# Altium footprint library led.PCBLIB: 116 footprints (part 2 of 8)
Each footprint in its own frame and in the unit in brackets; x right, y up, seen from the top. Pads: shape width x height; smd on the part's side, far side on the other; paste and mask are expansions set on the pad; w line width, h text height; cw(c..) or ccw(c..) is an arc to the next point about the centre after c.
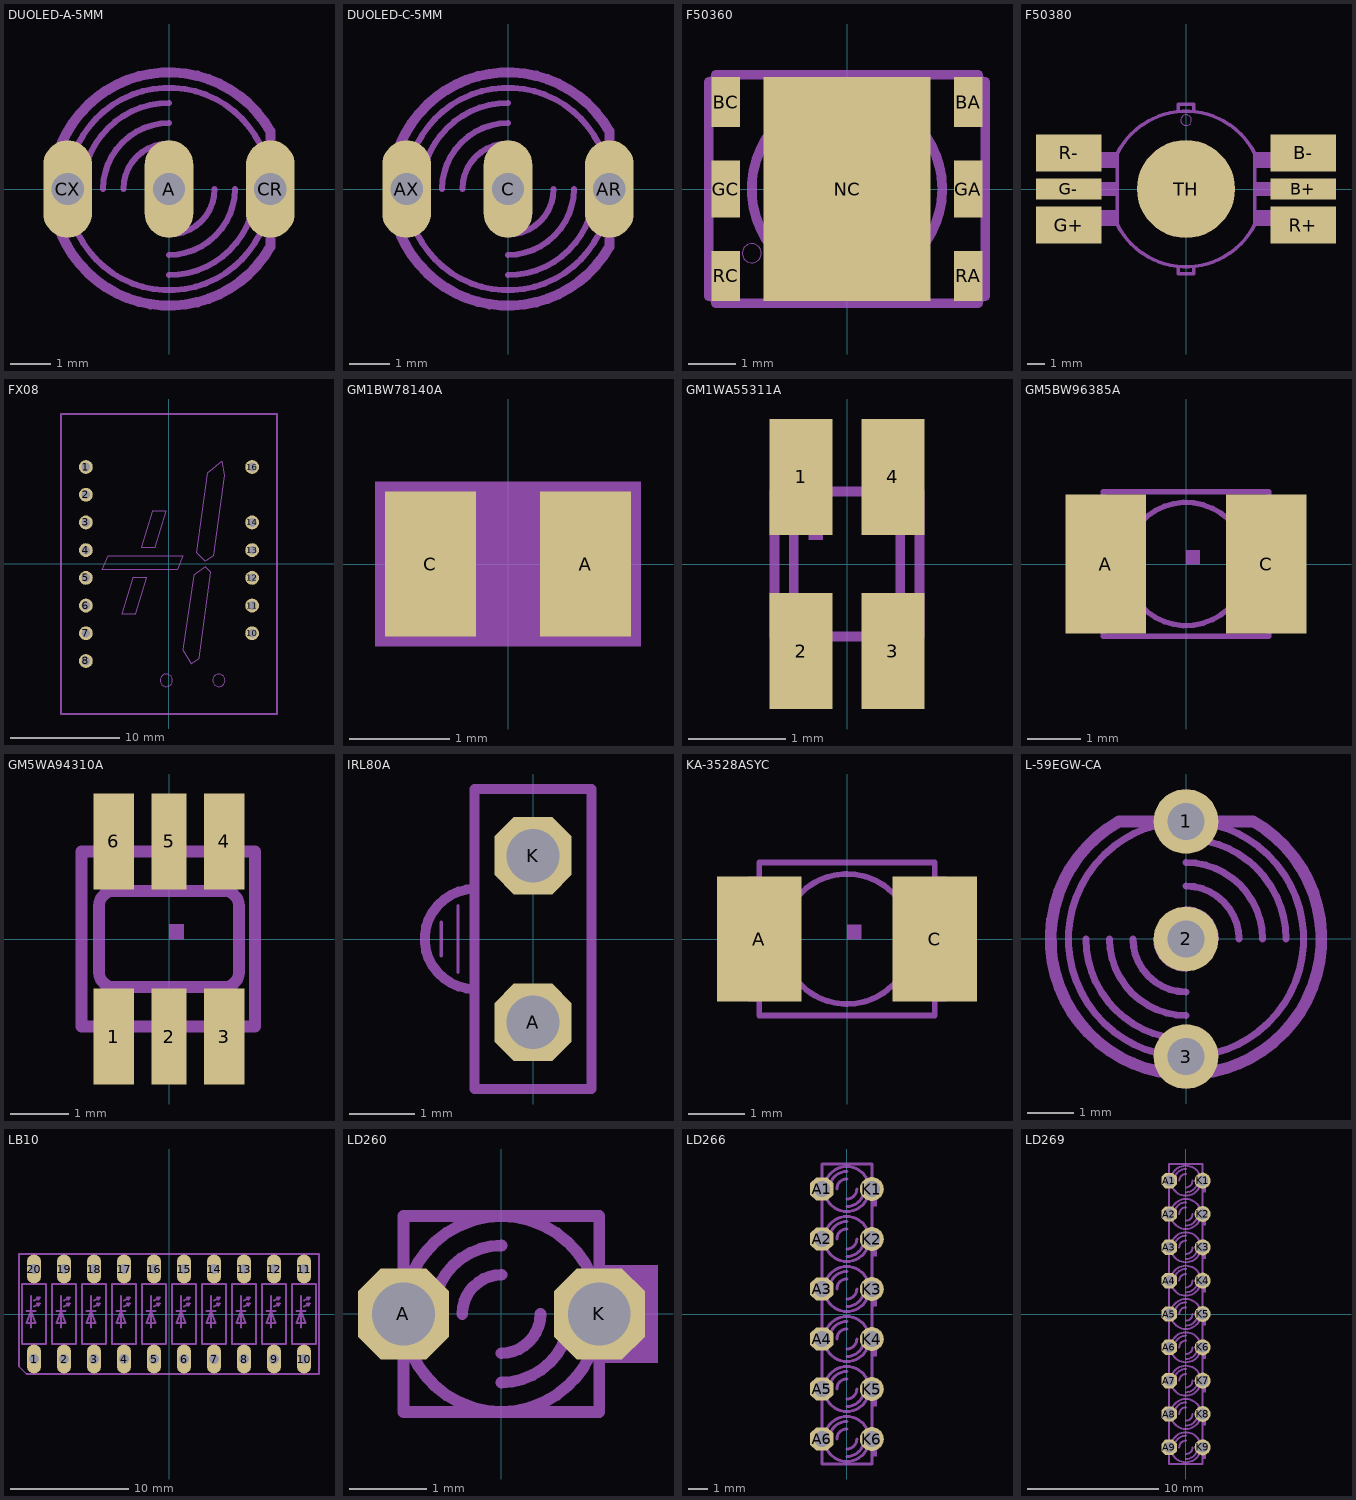
[diagram p1: the footprints below, top view; thin cyan lines are the x and y axes]

## DUOLED-A-5MM [mil]
pads (3):
  oval 48x96 hole 32: A(0,0) CR(100,0) CX(-100,0)
Mechanical 2:
  lines w6: -94,-34 ccw(c0,0) 94,-34 ; -94,34 cw(c0,0) 94,34
  lines w10: -110,-34 ccw(c0,0.01) 100.03,-57.02 ; -109.97,33.99 cw(c0,0.01) 100,57 100,35 ; 100,-57 100,-35
Mechanical 18:
  lines w6: -94,-34 cw(c0,0) -94,34 ; -85,0 cw(c0,0) 0,85 ; -65,0 cw(c0,0) 0,65 ; -45,0 cw(c0,0) 0,45 ; 0,-85 ccw(c0,0) 85,0 ; 0,-65 ccw(c0,0) 65,0 ; 0,-45 ccw(c0,0) 45,0 ; 94,-34 ccw(c0,0) 94,34
  lines w10: -110,-34 cw(c0,0) -110,34 ; 100,-35 100,37

## DUOLED-C-5MM [mil]
pads (3):
  oval 48x96 hole 32: AR(100,0) AX(-100,0) C(0,0)
Mechanical 2:
  lines w6: -94,-34 ccw(c0,0) 94,-34 ; -94,34 cw(c0,0) 94,34
  lines w10: -110,-34 ccw(c0,0.01) 100.03,-57.02 ; -109.97,33.99 cw(c0,0.01) 100,57 100,35 ; 100,-57 100,-35
Mechanical 18:
  lines w6: -94,-34 cw(c0,0) -94,34 ; -85,0 cw(c0,0) 0,85 ; -65,0 cw(c0,0) 0,65 ; -45,0 cw(c0,0) 0,45 ; 0,-85 ccw(c0,0) 85,0 ; 0,-65 ccw(c0,0) 65,0 ; 0,-45 ccw(c0,0) 45,0 ; 94,-34 ccw(c0,0) 94,34
  lines w10: -110,-34 cw(c0,0) -110,34 ; 100,-35 100,37

## F50360 [mm]
pads (7):
  rect 0.6x1.05 smd: BA(2.55,1.825) BC(-2.55,1.825) RA(2.55,-1.825) RC(-2.55,-1.825)
  rect 0.6x1.2 smd: GA(2.55,0) GC(-2.55,0)
  rect 3.5x4.7 smd: NC(0,0)
Mechanical 2:
  circle w0: c-2,-1.35 r0.2
Mechanical 18:
  circle w0.203: c0,0 r2
  region: -1.25,0.5 -1.25,-0.5 -0.25,-0.5 -0.25,0.5
  region: 0.25,1.25 0.25,0.25 1.25,0.25 1.25,1.25
  region: 0.25,-0.25 0.25,-1.25 1.25,-1.25 1.25,-0.25
  region: -0.5,-1 -0.5,-1.25 -0.25,-1.25 -0.25,-1
  region: -0.5,1.25 -0.5,1 -0.25,1 -0.25,1.25
  region: -1.25,1.25 -1.25,1 -1,1 -1,1.25
  lines w0.203: -2.9,-2.25 -2.9,2.25 ccw(c-2.9,2.4) -2.75,2.4 2.75,2.4 ccw(c2.9,2.4) 2.9,2.25 2.9,-2.25 ccw(c2.9,-2.4) 2.75,-2.4 -2.75,-2.4 ccw(c-2.9,-2.4) -2.9,-2.25

## F50380 [mm]
pads (7):
  rect 3.7x1.2 smd: B+(6.65,0) G-(-6.65,0)
  rect 3.7x2.1 smd: B-(6.65,2.05) G+(-6.65,-2.05) R+(6.65,-2.05) R-(-6.65,2.05)
  rrect100% 5.55x5.55 smd: TH(0,0)
Mechanical 2:
  circle w0: c0,3.9 r0.301
  rectangle: -5.4,-0.4 -3.975,0.4
  rectangle: -5.4,1.2 -3.925,2.1
  rectangle: -5.4,-2.1 -3.975,-1.2
  region: 5.4,0.4 3.975,0.4 3.975,-0.4 5.4,-0.4
  region: 5.4,-1.2 3.925,-1.2 3.925,-2.1 5.4,-2.1
  region: 5.4,2.1 3.975,2.1 3.975,1.2 5.4,1.2
  lines w0.203: -0.45,-4.5 -0.45,-4.8 0.45,-4.8 0.45,-4.475 ; -0.45,4.475 -0.45,4.8 0.45,4.8 0.45,4.5 ; -3.9,-2.025 ccw(c0,-0.012) 3.9,-2.025 3.9,2.025 ccw(c0,0.01) -3.9,2.025 -3.9,-2.025
Mechanical 18:
  rectangle: -7.25,-0.4 -5.7,0.4
  rectangle: -7.25,-2.7 -5.7,-1.2
  rectangle: -7.25,1.2 -5.7,2.7
  rectangle: -5.7,1.2 -5.4,2.1
  rectangle: -5.7,-0.4 -5.4,0.4
  rectangle: -5.7,-2.1 -5.4,-1.2
  region: 7.25,0.4 5.7,0.4 5.7,-0.4 7.25,-0.4
  region: 7.25,2.7 5.7,2.7 5.7,1.2 7.25,1.2
  region: 7.25,-1.2 5.7,-1.2 5.7,-2.7 7.25,-2.7
  region: 5.7,-1.2 5.4,-1.2 5.4,-2.1 5.7,-2.1
  region: 5.7,0.4 5.4,0.4 5.4,-0.4 5.7,-0.4
  region: 5.7,2.1 5.4,2.1 5.4,1.2 5.7,1.2

## FX08 [mil]
pads (14):
  round 50 hole 31.5: 1(-300,350) 2(-300,250) 3(-300,150) 4(-300,50) 5(-300,-50) 6(-300,-150) 7(-300,-250) 8(-300,-350) 10(300,-250) 11(300,-150) 12(300,-50) 13(300,50) 14(300,150) 16(300,350)
Mechanical 2:
  circle w3.94: c-10,-420 r22.36
  circle w3.94: c180,-420 r22.36
  lines w3.94: -240,-20 30,-20 50,30 -220,30 -240,-20 ; -170,-180 -120,-180 -80,-50 -130,-50 -170,-180 ; -100,60 -50,60 -10,190 -60,190 -100,60 ; 50,-310 90,-40 130,-10 150,-30 110,-340 80,-360 50,-310 ; 100,40 130,10 160,30 200,320 190,370 140,330 100,40
  lines w8: -389.76,-541.34 389.76,-541.34 389.76,541.34 -389.76,541.34 -389.76,-541.34

## GM1BW78140A [mil]
pads (2):
  rect 35.43x56.69 smd paste-28.34 mask-28.34: A(30.32,0) C(-30.32,0)
Top Paste:
  rectangle: 13.78,-26.57 46.26,26.57
  region: 0,0 10,0 10,10 0,10
Top Solder:
  rectangle: 10.83,-30.51 50.2,30.51
  region: 0,0 10,0 10,10 0,10
Mechanical 18:
  rectangle: -51.97,-32.28 51.97,32.28

## GM1WA55311A [mm]
pads (4):
  rect 0.65x1.2 smd paste-0.6 mask-0.6: 1(-0.475,0.9) 2(-0.475,-0.9) 3(0.475,-0.9) 4(0.475,0.9)
Top Paste:
  rectangle: -0.775,0.325 -0.175,1.45
  rectangle: 0.175,0.325 0.775,1.45
  region: 0.775,-0.325 0.175,-0.325 0.175,-1.45 0.775,-1.45
  region: -0.175,-0.325 -0.775,-0.325 -0.775,-1.45 -0.175,-1.45
Top Solder:
  rectangle: -0.85,0.25 -0.1,1.55
  rectangle: 0.1,0.25 0.85,1.55
  rectangle: -0.85,-1.55 -0.1,-0.25
  rectangle: 0.1,-1.55 0.85,-0.25
Mechanical 18:
  rectangle: -0.4,0.25 -0.25,0.65
  lines w0.102: -0.55,-0.7 -0.55,0.7 ; 0.55,-0.7 0.55,0.7 ; -0.75,-0.75 0.75,-0.75 0.75,0.75 -0.75,0.75 -0.75,-0.75

## GM5BW96385A [mil]
pads (2):
  rect 59.06x102.36 smd: A(-59.06,0) C(59.06,0)
Mechanical 18:
  circle w4: c0,0 r45.28
  rectangle: -68.9,-43.31 -62.01,43.31
  region: 68.9,43.31 62.01,43.31 62.01,-43.31 68.9,-43.31
  region: 0,0 10,0 10,10 0,10
  lines w4: -61.02,-53.15 61.02,-53.15 61.02,53.15 -61.02,53.15 -61.02,-53.15

## GM5WA94310A [mm]
pads (6):
  rect 0.7x1.65 smd mask-0.825: 1(-0.95,-1.675) 3(0.95,-1.675) 4(0.95,1.675) 6(-0.95,1.675)
  rect 0.6x1.65 smd mask-0.825: 2(0,-1.675) 5(0,1.675)
Top Solder:
  rectangle: -1.375,-2.575 -0.525,-0.775
  rectangle: -0.375,-2.575 0.375,-0.775
  rectangle: 0.525,-2.575 1.375,-0.775
  region: 1.375,2.575 0.525,2.575 0.525,0.775 1.375,0.775
  region: 0.375,2.575 -0.375,2.575 -0.375,0.775 0.375,0.775
  region: -0.525,2.575 -1.375,2.575 -1.375,0.775 -0.525,0.775
Mechanical 18:
  rectangle: -0.25,1.575 0.25,1.75
  rectangle: -1.2,1.575 -0.7,1.75
  rectangle: 0.7,1.575 1.2,1.75
  region: 0.25,-1.575 -0.25,-1.575 -0.25,-1.75 0.25,-1.75
  region: 1.2,-1.575 0.7,-1.575 0.7,-1.75 1.2,-1.75
  region: -0.7,-1.575 -1.2,-1.575 -1.2,-1.75 -0.7,-1.75
  region: 0,0 0.254,0 0.254,0.254 0,0.254
  lines w0.203: -1.5,-1.5 1.475,-1.5 1.475,1.5 -1.5,1.5 -1.5,-1.5 ; -1.2,-0.575 ccw(c-0.95,-0.575) -0.95,-0.825 0.95,-0.825 ccw(c0.95,-0.575) 1.2,-0.575 1.2,0.575 ccw(c0.95,0.575) 0.95,0.825 -0.95,0.825 ccw(c-0.95,0.575) -1.2,0.575 -1.2,-0.575

## IRL80A [mil]
pads (2):
  oct 46.48x46.48 hole 32: A(0,-50) K(0,50)
Mechanical 2:
  lines w2: -55,-10 -55,10 ; -45,-20 -45,20
  lines w6: -35,-70 -35,-90 35,-90 35,-70 ; -35,70 -35,90 35,90 35,70 ; 35,-25 35,30 ; -35,-30 -35,30 ccw(c-35,0) -35,-30
Mechanical 18:
  lines w6: -35,-70 -35,-30 ; -35,30 -35,70 ; 35,-70 35,-25 ; 35,30 35,70

## KA-3528ASYC [mil]
pads (2):
  rect 59.06x86.61 smd: A(-61.02,0) C(61.02,0)
Mechanical 2:
  region: 0,0 10,0 10,10 0,10
  lines w4: -61.02,-53.15 61.02,-53.15 ; -61.02,53.15 61.02,53.15 ; -25.59,-37.4 ccw(c0,0.25) 25.59,-37.4 ; -25.59,37.4 cw(c0,-0.25) 25.59,37.4
Mechanical 18:
  circle w4: c0,0 r45.28
  rectangle: -68.9,23.62 -62.99,43.31
  rectangle: -68.9,-43.31 -62.99,-23.62
  region: 68.9,-23.62 62.99,-23.62 62.99,-43.31 68.9,-43.31
  region: 68.9,43.31 62.99,43.31 62.99,23.62 68.9,23.62
  region: 0,0 10,0 10,10 0,10
  lines w4: -61.02,-53.15 -61.02,53.15 ; 61.02,-53.15 61.02,53.15

## L-59EGW-CA [mil]
pads (3):
  round 55.12 hole 31.5: 1(0,100) 2(0,0) 3(0,-100)
Mechanical 2:
  lines w6: -34,-94 cw(c0,0) -34,94 ; 34,-94 ccw(c0,0) 34,94
  lines w10: -35,100 -57,100 ccw(c-0.01,0) -33.99,-109.97 ; 34,-110 ccw(c-0.01,0) 57.02,100.03 ; 35,100 57,100
Mechanical 18:
  lines w6: -85,0 ccw(c0,0) 0,-85 ; -65,0 ccw(c0,0) 0,-65 ; -45,0 ccw(c0,0) 0,-45 ; -34,-94 ccw(c0,0) 34,-94 ; -34,94 cw(c0,0) 34,94 ; -25,0 ccw(c0,0) 0,-25 ; 0,25 cw(c0,0) 25,0 ; 0,45 cw(c0,0) 45,0 ; 0,65 cw(c0,0) 65,0 ; 0,85 cw(c0,0) 85,0
  lines w10: -37,100 35,100 ; -34,-110 ccw(c0,0) 34,-110

## LB10 [mil]
pads (20):
  oval 48x96 hole 32: 1(-450,-150) 2(-350,-150) 3(-250,-150) 4(-150,-150) 5(-50,-150) 6(50,-150) 7(150,-150) 8(250,-150) 9(350,-150) 10(450,-150) 11(450,150) 12(350,150) 13(250,150) 14(150,150) 15(50,150) 16(-50,150) 17(-150,150) 18(-250,150) 19(-350,150) 20(-450,150)
Mechanical 2:
  lines w6: -500,-175 -500,200 500,200 500,-200 -475,-200 -500,-175 ; -490,-100 -410,-100 -410,100 -490,100 -490,-100 ; -390,-100 -310,-100 -310,100 -390,100 -390,-100 ; -290,-100 -210,-100 -210,100 -290,100 -290,-100 ; -190,-100 -190,100 -110,100 -110,-100 -190,-100 ; -90,-100 -90,100 -10,100 -10,-100 -90,-100 ; 10,-100 10,100 90,100 90,-100 10,-100 ; 110,-100 110,100 190,100 190,-100 110,-100 ; 210,-100 210,100 290,100 290,-100 210,-100 ; 310,-100 310,100 390,100 390,-100 310,-100 ; 410,-100 410,100 490,100 490,-100 410,-100
Mechanical 18:
  lines w6: -475,10 -460,10 ; -460,-45 -460,10 ; -460,60 -460,10 ; -450,25 -430,35 ; -450,45 -430,55 ; -445,10 -460,10 ; -375,10 -360,10 ; -360,-45 -360,10 ; -360,60 -360,10 ; -350,25 -330,35 ; -350,45 -330,55 ; -345,10 -360,10 ; -275,10 -260,10 ; -260,-45 -260,10 ; -260,60 -260,10 ; -250,25 -230,35 ; -250,45 -230,55 ; -245,10 -260,10 ; -175,10 -160,10 ; -160,-45 -160,10 ; -160,60 -160,10 ; -150,25 -130,35 ; -150,45 -130,55 ; -145,10 -160,10 ; -75,10 -60,10 ; -60,-45 -60,10 ; -60,60 -60,10 ; -50,25 -30,35 ; -50,45 -30,55 ; -45,10 -60,10 ; 25,10 40,10 ; 40,-45 40,10 ; 40,60 40,10 ; 50,25 70,35 ; 50,45 70,55 ; 55,10 40,10 ; 125,10 140,10 ; 140,-45 140,10 ; 140,60 140,10 ; 150,25 170,35 ; 150,45 170,55 ; 155,10 140,10 ; 225,10 240,10 ; 240,-45 240,10 ; 240,60 240,10 ; 250,25 270,35 ; 250,45 270,55 ; 255,10 240,10 ; 325,10 340,10 ; 340,-45 340,10 ; 340,60 340,10 ; 350,25 370,35 ; 350,45 370,55 ; 355,10 340,10 ; 425,10 440,10 ; 440,-45 440,10 ; 440,60 440,10 ; 450,25 470,35 ; 450,45 470,55 ; 455,10 440,10 ; -460,10 -475,-30 -445,-30 -460,10 ; -430,35 -440,35 -436,27 -430,35 ; -430,55 -440,55 -436,47 -430,55 ; -360,10 -375,-30 -345,-30 -360,10 ; -330,35 -340,35 -336,27 -330,35 ; -330,55 -340,55 -336,47 -330,55 ; -260,10 -275,-30 -245,-30 -260,10 ; -230,35 -240,35 -236,27 -230,35 ; -230,55 -240,55 -236,47 -230,55 ; -160,10 -175,-30 -145,-30 -160,10 ; -130,35 -140,35 -136,27 -130,35 ; -130,55 -140,55 -136,47 -130,55 ; -60,10 -75,-30 -45,-30 -60,10 ; -30,35 -40,35 -36,27 -30,35 ; -30,55 -40,55 -36,47 -30,55 ; 40,10 25,-30 55,-30 40,10 ; 70,35 60,35 64,27 70,35 ; 70,55 60,55 64,47 70,55 ; 140,10 125,-30 155,-30 140,10 ; 170,35 160,35 164,27 170,35 ; 170,55 160,55 164,47 170,55 ; 240,10 225,-30 255,-30 240,10 ; 270,35 260,35 264,27 270,35 ; 270,55 260,55 264,47 270,55 ; 340,10 325,-30 355,-30 340,10 ; 370,35 360,35 364,27 370,35 ; 370,55 360,55 364,47 370,55 ; 440,10 425,-30 455,-30 440,10 ; 470,35 460,35 464,27 470,35 ; 470,55 460,55 464,47 470,55

## LD260 [mil]
pads (2):
  oct 46.48x46.48 hole 32: A(-50,0) K(50,0)
Mechanical 2:
  rectangle: 75,-25 80,25
  lines w6: -50,-35 -50,-50 0,-50 ; -50,35 -50,50 0,50 ; -39.04,-31.24 ccw(c0,-0.01) 0,-50 ; -39.04,31.24 cw(c0,0.01) 0,50 ; 0,-20 ccw(c0,0) 20,0 ; 39.04,-31.24 cw(c0,-0.01) 0,-50 ; 39.04,31.24 ccw(c0,0.01) 0,50 ; 50,-35 50,-50 0,-50 ; 50,35 50,50 0,50
Mechanical 18:
  rectangle: 50,-25 80,25
  lines w6: -50,-35 -50,0 ; -50,35 -50,0 ; -37.96,-32.54 cw(c0,0) -50,0 ; -37.96,32.54 ccw(c0,0) -50,0 ; -35,0 cw(c0,0) 0,35 ; -20,0 cw(c0,0) 0,20 ; 0,-35 ccw(c0,0) 35,0 ; 37.63,-32.93 ccw(c-0.01,0) 50,0 ; 38.41,32.01 cw(c0,0) 50,0 ; 50,-35 50,0 ; 50,35 50,0

## LD266 [mil]
pads (12):
  oct 46.48x46.48 hole 32: A1(-50,250) A2(-50,150) A3(-50,50) A4(-50,-50) A5(-50,-150) A6(-50,-250)
  round 48 hole 32: K1(50,250) K2(50,150) K3(50,50) K4(50,-50) K5(50,-150) K6(50,-250)
Mechanical 2:
  lines w6: -50,-285 -50,-300 50,-300 50,-285 ; -50,-215 -50,-185 ; -50,-115 -50,-85 ; -50,-15 -50,15 ; -50,85 -50,115 ; -50,185 -50,215 ; -50,285 -50,300 50,300 50,285 ; -34.17,-279.29 ccw(c-0.01,-250) 0,-295 ccw(c0.01,-250) 34.17,-279.29 ; -34.17,-220.71 cw(c-0.01,-250) 0,-205 cw(c0.01,-250) 34.17,-220.71 ; -34.17,-179.29 ccw(c-0.01,-150) 0,-195 ccw(c0.01,-150) 34.17,-179.29 ; -34.17,-120.71 cw(c-0.01,-150) 0,-105 cw(c0.01,-150) 34.17,-120.71 ; -34.17,-79.29 ccw(c-0.01,-50) 0,-95 ccw(c0.01,-50) 34.17,-79.29 ; -34.17,-20.71 cw(c-0.01,-50) 0,-5 cw(c0.01,-50) 34.17,-20.71 ; -34.17,20.71 ccw(c-0.01,50) 0,5 ccw(c0.01,50) 34.17,20.71 ; -34.17,79.29 cw(c-0.01,50) 0,95 cw(c0.01,50) 34.17,79.29 ; -34.17,120.71 ccw(c-0.01,150) 0,105 ccw(c0.01,150) 34.17,120.71 ; -34.17,179.29 cw(c-0.01,150) 0,195 cw(c0.01,150) 34.17,179.29 ; -34.17,220.71 ccw(c-0.01,250) 0,205 ccw(c0.01,250) 34.17,220.71 ; -34.17,279.29 cw(c-0.01,250) 0,295 cw(c0.01,250) 34.17,279.29 ; 0,-270 ccw(c0,-250) 20,-250 ; 0,-170 ccw(c0,-150) 20,-150 ; 0,-70 ccw(c0,-50) 20,-50 ; 0,30 ccw(c0,50) 20,50 ; 0,130 ccw(c0,150) 20,150 ; 0,230 ccw(c0,250) 20,250 ; 50,-215 50,-185 ; 50,-115 50,-85 ; 50,-15 50,15 ; 50,85 50,115 ; 50,185 50,215
Mechanical 18:
  rectangle: 50,215 60,260
  rectangle: -60,240 -50,260
  rectangle: 50,115 60,160
  rectangle: -60,140 -50,160
  rectangle: 50,15 60,60
  rectangle: -60,40 -50,60
  rectangle: 50,-85 60,-40
  rectangle: -60,-60 -50,-40
  rectangle: 50,-185 60,-140
  rectangle: -60,-160 -50,-140
  rectangle: 50,-285 60,-240
  rectangle: -60,-260 -50,-240
  lines w6: -50,-285 -50,-215 ; -50,-185 -50,-115 ; -50,-85 -50,-15 ; -50,15 -50,85 ; -50,115 -50,185 ; -50,215 -50,285 ; -35,-250 cw(c0,-250) 0,-215 ; -35,-150 cw(c0,-150) 0,-115 ; -35,-50 cw(c0,-50) 0,-15 ; -35,50 cw(c0,50) 0,85 ; -35,150 cw(c0,150) 0,185 ; -35,250 cw(c0,250) 0,285 ; -34.16,-279.29 cw(c0,-250) -45,-250 cw(c0,-249.99) -34.17,-220.71 ; -34.16,-179.29 cw(c0,-150) -45,-150 cw(c0,-149.99) -34.17,-120.71 ; -34.16,-79.29 cw(c0,-50) -45,-50 cw(c0,-49.99) -34.17,-20.71 ; -34.17,20.71 cw(c0,49.99) -45,50 cw(c0,50) -34.16,79.29 ; -34.17,120.71 cw(c0,149.99) -45,150 cw(c0,150) -34.16,179.29 ; -34.17,220.71 cw(c0,249.99) -45,250 cw(c0,250) -34.16,279.29 ; -20,-250 cw(c0,-250) 0,-230 ; -20,-150 cw(c0,-150) 0,-130 ; -20,-50 cw(c0,-50) 0,-30 ; -20,50 cw(c0,50) 0,70 ; -20,150 cw(c0,150) 0,170 ; -20,250 cw(c0,250) 0,270 ; 0,-285 ccw(c0,-250) 35,-250 ; 0,-185 ccw(c0,-150) 35,-150 ; 0,-85 ccw(c0,-50) 35,-50 ; 0,15 ccw(c0,50) 35,50 ; 0,115 ccw(c0,150) 35,150 ; 0,215 ccw(c0,250) 35,250 ; 34.17,-279.29 ccw(c0,-250.01) 45,-250 ccw(c0,-249.99) 34.17,-220.71 ; 34.17,-179.29 ccw(c0,-150.01) 45,-150 ccw(c0,-149.99) 34.17,-120.71 ; 34.17,-79.29 ccw(c0,-50.01) 45,-50 ccw(c0,-49.99) 34.17,-20.71 ; 34.17,20.71 ccw(c0,49.99) 45,50 ccw(c0,50.01) 34.17,79.29 ; 34.17,120.71 ccw(c0,149.99) 45,150 ccw(c0,150.01) 34.17,179.29 ; 34.17,220.71 ccw(c0,249.99) 45,250 ccw(c0,250.01) 34.17,279.29 ; 50,-285 50,-215 ; 50,-185 50,-115 ; 50,-85 50,-15 ; 50,15 50,85 ; 50,115 50,185 ; 50,215 50,285

## LD269 [mil]
pads (18):
  oct 46.48x46.48 hole 32: A1(-50,400) A2(-50,300) A3(-50,200) A4(-50,100) A5(-50,0) A6(-50,-100) A7(-50,-200) A8(-50,-300) A9(-50,-400)
  round 48 hole 32: K1(50,400) K2(50,300) K3(50,200) K4(50,100) K5(50,0) K6(50,-100) K7(50,-200) K8(50,-300) K9(50,-400)
Mechanical 2:
  lines w6: -50,-435 -50,-450 50,-450 50,-435 ; -50,-365 -50,-335 ; -50,-265 -50,-235 ; -50,-165 -50,-135 ; -50,-65 -50,-35 ; -50,35 -50,65 ; -50,135 -50,165 ; -50,235 -50,265 ; -50,335 -50,365 ; -50,435 -50,450 50,450 50,435 ; -34.17,-429.29 ccw(c-0.01,-400) 0,-445 ccw(c0.01,-400) 34.17,-429.29 ; -34.17,-370.71 cw(c-0.01,-400) 0,-355 cw(c0.01,-400) 34.17,-370.71 ; -34.17,-329.29 ccw(c-0.01,-300) 0,-345 ccw(c0.01,-300) 34.17,-329.29 ; -34.17,-270.71 cw(c-0.01,-300) 0,-255 cw(c0.01,-300) 34.17,-270.71 ; -34.17,-229.29 ccw(c-0.01,-200) 0,-245 ccw(c0.01,-200) 34.17,-229.29 ; -34.17,-170.71 cw(c-0.01,-200) 0,-155 cw(c0.01,-200) 34.17,-170.71 ; -34.17,-129.29 ccw(c-0.01,-100) 0,-145 ccw(c0.01,-100) 34.17,-129.29 ; -34.17,-70.71 cw(c-0.01,-100) 0,-55 cw(c0.01,-100) 34.17,-70.71 ; -34.17,-29.29 ccw(c-0.01,0) 0,-45 ccw(c0.01,0) 34.17,-29.29 ; -34.17,29.29 cw(c-0.01,0) 0,45 cw(c0.01,0) 34.17,29.29 ; -34.17,70.71 ccw(c-0.01,100) 0,55 ccw(c0.01,100) 34.17,70.71 ; -34.17,129.29 cw(c-0.01,100) 0,145 cw(c0.01,100) 34.17,129.29 ; -34.17,170.71 ccw(c-0.01,200) 0,155 ccw(c0.01,200) 34.17,170.71 ; -34.17,229.29 cw(c-0.01,200) 0,245 cw(c0.01,200) 34.17,229.29 ; -34.17,270.71 ccw(c-0.01,300) 0,255 ccw(c0.01,300) 34.17,270.71 ; -34.17,329.29 cw(c-0.01,300) 0,345 cw(c0.01,300) 34.17,329.29 ; -34.17,370.71 ccw(c-0.01,400) 0,355 ccw(c0.01,400) 34.17,370.71 ; -34.17,429.29 cw(c-0.01,400) 0,445 cw(c0.01,400) 34.17,429.29 ; 0,-420 ccw(c0,-400) 20,-400 ; 0,-320 ccw(c0,-300) 20,-300 ; 0,-220 ccw(c0,-200) 20,-200 ; 0,-120 ccw(c0,-100) 20,-100 ; 0,-20 ccw(c0,0) 20,0 ; 0,80 ccw(c0,100) 20,100 ; 0,180 ccw(c0,200) 20,200 ; 0,280 ccw(c0,300) 20,300 ; 0,380 ccw(c0,400) 20,400 ; 50,-365 50,-335 ; 50,-265 50,-235 ; 50,-165 50,-135 ; 50,-65 50,-35 ; 50,35 50,65 ; 50,135 50,165 ; 50,235 50,265 ; 50,335 50,365
Mechanical 18:
  rectangle: 50,65 60,110
  rectangle: -60,90 -50,110
  rectangle: 50,-35 60,10
  rectangle: -60,-10 -50,10
  rectangle: 50,-135 60,-90
  rectangle: -60,-110 -50,-90
  rectangle: 50,365 60,410
  rectangle: -60,390 -50,410
  rectangle: 50,265 60,310
  rectangle: -60,290 -50,310
  rectangle: 50,165 60,210
  rectangle: -60,190 -50,210
  rectangle: 50,-235 60,-190
  rectangle: -60,-210 -50,-190
  rectangle: 50,-335 60,-290
  rectangle: -60,-310 -50,-290
  rectangle: 50,-435 60,-390
  rectangle: -60,-410 -50,-390
  lines w6: -50,-435 -50,-365 ; -50,-335 -50,-265 ; -50,-235 -50,-165 ; -50,-135 -50,-65 ; -50,-35 -50,35 ; -50,65 -50,135 ; -50,165 -50,235 ; -50,265 -50,335 ; -50,365 -50,435 ; -35,-400 cw(c0,-400) 0,-365 ; -35,-300 cw(c0,-300) 0,-265 ; -35,-200 cw(c0,-200) 0,-165 ; -35,-100 cw(c0,-100) 0,-65 ; -35,0 cw(c0,0) 0,35 ; -35,100 cw(c0,100) 0,135 ; -35,200 cw(c0,200) 0,235 ; -35,300 cw(c0,300) 0,335 ; -35,400 cw(c0,400) 0,435 ; -34.16,-429.29 cw(c0,-400) -45,-400 cw(c0,-399.99) -34.17,-370.71 ; -34.16,-329.29 cw(c0,-300) -45,-300 cw(c0,-299.99) -34.17,-270.71 ; -34.16,-229.29 cw(c0,-200) -45,-200 cw(c0,-199.99) -34.17,-170.71 ; -34.16,-129.29 cw(c0,-100) -45,-100 cw(c0,-99.99) -34.17,-70.71 ; -34.17,-29.29 cw(c0,-0.01) -45,0 cw(c0,0.01) -34.17,29.29 ; -34.17,70.71 cw(c0,99.99) -45,100 cw(c0,100) -34.16,129.29 ; -34.17,170.71 cw(c0,199.99) -45,200 cw(c0,200) -34.16,229.29 ; -34.17,270.71 cw(c0,299.99) -45,300 cw(c0,300) -34.16,329.29 ; -34.17,370.71 cw(c0,399.99) -45,400 cw(c0,400) -34.16,429.29 ; -20,-400 cw(c0,-400) 0,-380 ; -20,-300 cw(c0,-300) 0,-280 ; -20,-200 cw(c0,-200) 0,-180 ; -20,-100 cw(c0,-100) 0,-80 ; -20,0 cw(c0,0) 0,20 ; -20,100 cw(c0,100) 0,120 ; -20,200 cw(c0,200) 0,220 ; -20,300 cw(c0,300) 0,320 ; -20,400 cw(c0,400) 0,420 ; 0,-435 ccw(c0,-400) 35,-400 ; 0,-335 ccw(c0,-300) 35,-300 ; 0,-235 ccw(c0,-200) 35,-200 ; 0,-135 ccw(c0,-100) 35,-100 ; 0,-35 ccw(c0,0) 35,0 ; 0,65 ccw(c0,100) 35,100 ; 0,165 ccw(c0,200) 35,200 ; 0,265 ccw(c0,300) 35,300 ; 0,365 ccw(c0,400) 35,400 ; 34.17,-429.29 ccw(c0,-400.01) 45,-400 ccw(c0,-399.99) 34.17,-370.71 ; 34.17,-329.29 ccw(c0,-300.01) 45,-300 ccw(c0,-299.99) 34.17,-270.71 ; 34.17,-229.29 ccw(c0,-200.01) 45,-200 ccw(c0,-199.99) 34.17,-170.71 ; 34.17,-129.29 ccw(c0,-100.01) 45,-100 ccw(c0,-99.99) 34.17,-70.71 ; 34.17,-29.29 ccw(c0,-0.01) 45,0 ccw(c0,0.01) 34.17,29.29 ; 34.17,70.71 ccw(c0,99.99) 45,100 ccw(c0,100.01) 34.17,129.29 ; 34.17,170.71 ccw(c0,199.99) 45,200 ccw(c0,200.01) 34.17,229.29 ; 34.17,270.71 ccw(c0,299.99) 45,300 ccw(c0,300.01) 34.17,329.29 ; 34.17,370.71 ccw(c0,399.99) 45,400 ccw(c0,400.01) 34.17,429.29 ; 50,-435 50,-365 ; 50,-335 50,-265 ; 50,-235 50,-165 ; 50,-135 50,-65 ; 50,-35 50,35 ; 50,65 50,135 ; 50,165 50,235 ; 50,265 50,335 ; 50,365 50,435